# EAGLE library part LAUNCHPAD (library Rohit_Libs)
Launchpad Design for Booster Packs Based On Launchpad V1.5 Comes with No Warranty Created By: Rohit Gupta <http://indiantinker.wordpress.com/>
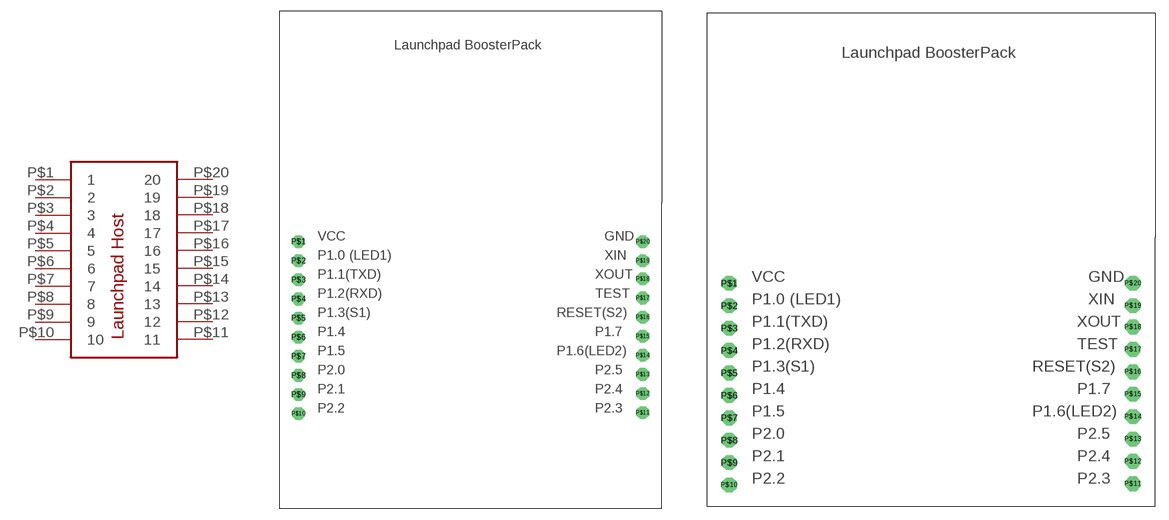
[diagram p1: symbol with the pads of LAUNCHPAD; footprints LAUNCHPAD, LAUNCHPAD_BUTTONS_LIGHTS_ACCESSIBLE]

Designator prefix -

## LAUNCHPAD  [LAUNCHPAD]
P$1  1  pwr
P$2  2  pas
P$3  3  pas
P$4  4  pas
P$5  5  pas
P$6  6  pas
P$7  7  pas
P$8  8  pas
P$9  9  pas
P$10  10  pas
P$11  11  pas
P$12  12  pas
P$13  13  pas
P$14  14  pas
P$15  15  pas
P$16  16  pas
P$17  17  pas
P$18  18  pas
P$19  19  pas
P$20  20  pwr

## LAUNCHPADBUTTONS_LIGHTS_ACCESSIBLE  [LAUNCHPAD_BUTTONS_LIGHTS_ACCESSIBLE]
Pads as for LAUNCHPAD

## LAUNCHPADONLY_CONNECTORS  [LAUNCHPAD_ONLY_CONN]
Pads as for LAUNCHPAD

## Footprint LAUNCHPAD (pad centres in mm)
Launchpad Booster Pack Package Complete Surface Cover for Launchpad! For Bigger BoosterPacks! Made By:Rohit Gupta <http://indiantinker.wordpress.com/>
drill 1 pad 1.676 octagon: P$1 2.54,35.433; P$2 2.54,32.893; P$3 2.54,30.353; P$4 2.54,27.813; P$5 2.54,25.273; P$6 2.54,22.733; P$7 2.54,20.193; P$8 2.54,17.653; P$9 2.54,15.113; P$10 2.54,12.573; P$11 48.26,12.7; P$12 48.26,15.24; P$13 48.26,17.78; P$14 48.26,20.32; P$15 48.26,22.86; P$16 48.26,25.4; P$17 48.26,27.94; P$18 48.26,30.48; P$19 48.26,32.893; P$20 48.26,35.433

## Footprint LAUNCHPAD_BUTTONS_LIGHTS_ACCESSIBLE (pad centres in mm)
Launchpad Booster Pack Package Allows the use of the buttons and LED on the Launchpad! Made By:Rohit Gupta <http://indiantinker.wordpress.com/>
drill 1 pad 1.676 octagon: P$1 2.54,25.273; P$2 2.54,22.733; P$3 2.54,20.193; P$4 2.54,17.653; P$5 2.54,15.113; P$6 2.54,12.573; P$7 2.54,10.033; P$8 2.54,7.493; P$9 2.54,4.953; P$10 2.54,2.413; P$11 48.26,2.54; P$12 48.26,5.08; P$13 48.26,7.62; P$14 48.26,10.16; P$15 48.26,12.7; P$16 48.26,15.24; P$17 48.26,17.78; P$18 48.26,20.32; P$19 48.26,22.733; P$20 48.26,25.273

## Footprint LAUNCHPAD_ONLY_CONN (pad centres in mm)
Launchpad Booster Pack Package Only Connector Booster Pack Package-For Small BoosterPacks Made By:Rohit Gupta <http://indiantinker.wordpress.com/>
drill 1 pad 1.676 octagon: P$1 2.54,35.433; P$2 2.54,32.893; P$3 2.54,30.353; P$4 2.54,27.813; P$5 2.54,25.273; P$6 2.54,22.733; P$7 2.54,20.193; P$8 2.54,17.653; P$9 2.54,15.113; P$10 2.54,12.573; P$11 48.26,12.7; P$12 48.26,15.24; P$13 48.26,17.78; P$14 48.26,20.32; P$15 48.26,22.86; P$16 48.26,25.4; P$17 48.26,27.94; P$18 48.26,30.48; P$19 48.26,32.893; P$20 48.26,35.433